# Altium footprint library PMP30284RevA_pcb.PcbLib: 17 footprints (part 1 of 2)
Each footprint in its own frame and in the unit in brackets; x right, y up, seen from the top. Pads: shape width x height; smd on the part's side, far side on the other; paste and mask are expansions set on the pad; w line width, h text height; cw(c..) or ccw(c..) is an arc to the next point about the centre after c.
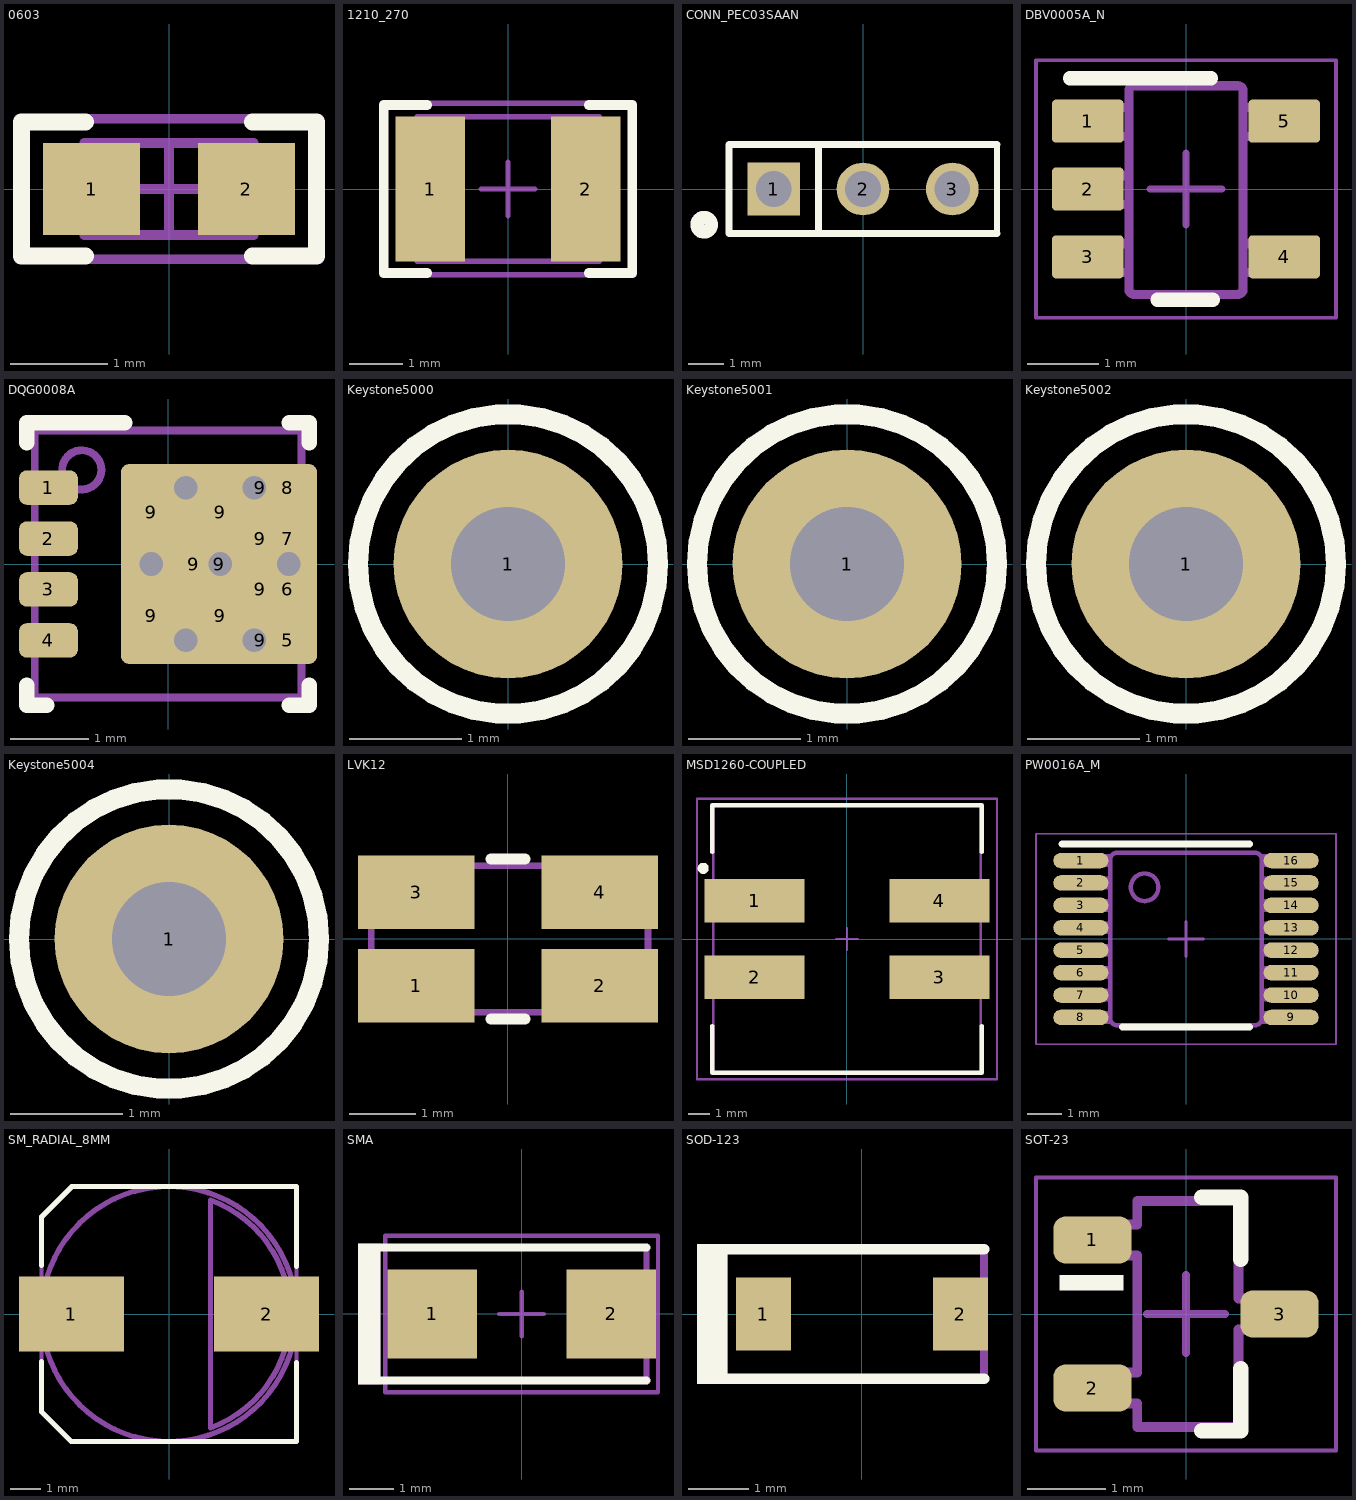
[diagram p0: the footprints below, top view; thin cyan lines are the x and y axes]

## 0603 [mm] "0603 from SM-752 data"
height 1
pads (2):
  rect 1x0.95 smd: 1(-0.8,0) 2(0.8,0)
Top Overlay:
  lines w0.178: -0.864,-0.691 -1.524,-0.691 -1.524,0.693 -0.864,0.693 ; 0.864,-0.691 1.524,-0.691 1.524,0.693 0.864,0.693
Mechanical 5:
  lines w0.1: -1.55,-0.725 1.55,-0.725 1.55,0.725 -1.55,0.725 -1.55,-0.725
  text ".Designator" at -1.397,-0.381 h0.76
Mechanical 13:
  lines w0.1: -0.55,-0.475 -0.55,0.475 ; 0.55,-0.475 0.55,0.475 ; -0.875,-0.475 -0.875,0.475 0.875,0.475 0.875,-0.475 -0.875,-0.475
Mechanical 15:
  lines w0.1: -0.475,0 0.475,0 ; 0,-0.475 0,0.475 ; -1.55,-0.725 -1.55,0.725 1.55,0.725 1.55,-0.725 -1.55,-0.725
3D body: height 1, standoff 0, extent 0.551,-0.474 0.874,0.474
3D body: height 1, standoff 0, extent -0.549,-0.474 0.549,0.474
3D body: height 1, standoff 0, extent -0.874,-0.474 -0.551,0.474

## 1210_270 [mm] "1210"
height 2.7
pads (2):
  rect 1.3x2.7 smd: 1(-1.45,0) 2(1.45,0)
Top Overlay:
  lines w0.178: -1.511,-1.568 -2.316,-1.568 -2.316,1.568 -1.511,1.568 ; 1.511,-1.568 2.316,-1.568 2.316,1.568 1.511,1.568
Mechanical 5:
  lines w0.1: -1.7,-1.35 -1.7,1.35 1.7,1.35 1.7,-1.35 -1.7,-1.35
  text ".Designator" at -1.4,-0.375 h0.76
Mechanical 13:
  lines w0.1: -1.2,-1.35 -1.2,1.35 ; 1.2,-1.35 1.2,1.35 ; -1.7,-1.35 1.7,-1.35 1.7,1.35 -1.7,1.35 -1.7,-1.35
Mechanical 15:
  lines w0.1: -0.5,0 0.5,0 ; 0,-0.5 0,0.5 ; -2.35,-1.6 2.35,-1.6 2.35,1.6 -2.35,1.6 -2.35,-1.6
3D body: height 2.7, standoff 0, extent 1.201,-1.349 1.699,1.349
3D body: height 2.7, standoff 0, extent -1.199,-1.349 1.199,1.349
3D body: height 2.7, standoff 0, extent -1.699,-1.349 -1.201,1.349

## CONN_PEC03SAAN [mm] "SULLINS"
height 8.38
pads (3):
  rect 1.5x1.5 hole 1.016: 1(-2.54,0)
  round 1.5 hole 1.016: 2(0,0) 3(2.54,0)
Top Overlay:
  circle w0.381: c-4.521,-1.016 r0.203
  lines w0.178: 3.81,-1.27 3.81,0.254 3.81,1.27
  lines w0.203: -1.27,1.27 -1.27,-1.27 ; 3.81,-1.27 -1.27,-1.27 ; 3.81,1.27 -3.81,1.27 -3.81,-1.27 -1.27,-1.27
Mechanical 5:
  rectangle: -3.048,-0.508 -2.032,0.508
  lines w0.127: -3.81,-1.27 3.81,-1.27 3.81,1.27 -3.81,1.27 -3.81,-1.27
  text ".Designator" at -0.508,0.381 h0.76
3D body: height 2.54, standoff 0, extent -3.835,-1.295 3.835,1.295
3D body: height 8.38, standoff -3.05, extent -2.844,-0.304 -2.236,0.304
3D body: height 8.38, standoff -3.05, extent -0.304,-0.304 0.304,0.304
3D body: height 8.38, standoff -3.05, extent 2.236,-0.304 2.844,0.304

## DBV0005A_N [mm] "SOT23, 5-Leads, Body 2.9x1.6mm, Pitch 0.95mm, Lead Span 2.8mm, IPC Medium Density"
height 1.45
pads (5):
  rrect17% 1x0.6 smd: 1(-1.375,0.95) 2(-1.375,0) 3(-1.375,-0.95) 4(1.375,-0.95) 5(1.375,0.95)
Top Overlay:
  lines w0.2: -1.625,1.55 0.35,1.55 ; -0.4,-1.55 0.375,-1.55
Mechanical 5:
  lines w0.127: -0.801,1.371 cw(c-0.725,1.37) -0.725,1.446 ; -0.801,1.37 -0.801,-1.399 -0.801,-1.4 ccw(c-0.725,-1.399) -0.725,-1.475 ; -0.801,1.37 -0.801,1.371 ; -0.725,-1.475 -0.725,-1.475 ; -0.725,-1.475 0.723,-1.475 0.724,-1.475 ccw(c0.723,-1.399) 0.799,-1.4 0.799,-1.399 0.799,1.37 ; -0.725,1.446 0.723,1.446 0.724,1.446 cw(c0.723,1.37) 0.799,1.371 ; -0.725,1.446 -0.725,1.446 ; 0.799,1.37 0.799,1.371 ; -1.423,-1.167 -1.199,-1.167 -1.105,-1.167 -1.088,-1.167 -0.835,-1.167 -0.801,-1.167 -0.801,-0.767 -0.835,-0.767 -1.088,-0.767 -1.105,-0.767 -1.199,-0.767 -1.423,-0.767 -1.423,-1.167 ; -1.423,-0.215 -1.199,-0.215 -1.105,-0.215 -1.088,-0.215 -0.835,-0.215 -0.801,-0.215 -0.801,0.186 -0.835,0.186 -1.088,0.186 -1.105,0.186 -1.199,0.186 -1.423,0.186 -1.423,-0.215 ; -1.423,0.738 -1.199,0.738 -1.105,0.738 -1.088,0.738 -0.835,0.738 -0.801,0.738 -0.801,1.138 -0.835,1.138 -1.088,1.138 -1.105,1.138 -1.199,1.138 -1.423,1.138 -1.423,0.738 ; 0.799,-1.167 0.799,-0.767 0.834,-0.767 1.087,-0.767 1.103,-0.767 1.198,-0.767 1.422,-0.767 1.422,-1.167 1.198,-1.167 1.103,-1.167 1.087,-1.167 0.834,-1.167 0.799,-1.167 ; 0.799,0.738 0.799,1.138 0.834,1.138 1.087,1.138 1.103,1.138 1.198,1.138 1.422,1.138 1.422,0.738 1.198,0.738 1.103,0.738 1.087,0.738 0.834,0.738 0.799,0.738
  text ".Designator" at -0.25,0.95 h0.51
Mechanical 15:
  lines w0.05: -2.1,-1.8 2.1,-1.8 2.1,1.8 -2.1,1.8 -2.1,-1.8
  lines w0.1: -0.5,0 0.5,0 ; 0,-0.5 0,0.5
3D body "DBV0005A.stp": height 1.09, standoff 0, extent -1.422,-1.46 1.422,1.461

## DQG0008A [mm] "SMD, 8-Leads, Body 3.3x3.3mm, Pitch 0.65mm"
height 1.1
pads (18):
  rrect45% 0.75x0.44 smd paste-0.05 mask-0.05: 1(-1.525,0.975) 2(-1.525,0.325) 3(-1.525,-0.325) 4(-1.525,-0.975) 5(1.525,-0.975) 6(1.525,-0.325) 7(1.525,0.325) 8(1.525,0.975)
  rrect50% 0.676x1.125 on Top Paste: 9(-0.212,-0.663) 9(-0.212,0.662) 9(0.664,-0.663) 9(0.664,0.662)
  rrect50% 1.775x2.45 on Top Solder: 9(0.327,0)
  rrect8% 2.5x2.55 smd paste-1.5 mask-1.5: 9(0.65,0)
  rrect50% 0.5x0.34 on Top Solder: 9(1.175,-0.975) 9(1.175,-0.325) 9(1.175,0.325) 9(1.175,0.975)
via 0.226,0.975 diameter 0.6 hole 0.3
via 1.102,0.975 diameter 0.6 hole 0.3
via 1.102,-0.975 diameter 0.6 hole 0.3
via 0.226,-0.975 diameter 0.6 hole 0.3
via 0.664,0 diameter 0.6 hole 0.3
via -0.212,0 diameter 0.6 hole 0.3
via 1.54,0 diameter 0.6 hole 0.3
Top Overlay:
  lines w0.2: -1.8,-1.55 -1.8,-1.8 -1.55,-1.8 ; -1.8,1.55 -1.8,1.8 -0.55,1.8 ; 1.55,-1.8 1.8,-1.8 1.8,-1.55 ; 1.55,1.8 1.8,1.8 1.8,1.55
Mechanical 5:
  circle w0.1: c-1.1,1.2 r0.25
  lines w0.1: -1.7,-1.7 1.7,-1.7 1.7,1.7 -1.7,1.7 -1.7,-1.7
  text ".Designator" at -1.524,-0.508 h0.76
3D body "DQG0008A.stp": height 1.1, standoff 0, extent -1.65,-1.65 1.65,1.65

## Keystone5000 [mil] "For Keystone 500x miniature loop terminals"
height 181.1
pads (1):
  round 80 hole 40: 1(0,0)
Top Overlay:
  circle w7: c0,0 r52.5
Mechanical 5:
  circle w3.94: c0,0 r52.5
  text ".Designator" at -92.97,-15 h18
3D body "Keystone_5000.stp": height 181.97, standoff -118.11, extent -49,-49 49.04,49.24

## Keystone5001 [mil] "For Keystone 500x miniature loop terminals"
height 181.1
pads (1):
  round 80 hole 40: 1(0,0)
Top Overlay:
  circle w7: c0,0 r52.5
Mechanical 5:
  circle w3.94: c0,0 r52.5
  text ".Designator" at -92.97,-15 h18
3D body "Keystone_5001.stp": height 181.97, standoff -118.11, extent -49,-49 49.04,49.24

## Keystone5002 [mil] "For Keystone 500x miniature loop terminals"
height 181.1
pads (1):
  round 80 hole 40: 1(0,0)
Top Overlay:
  circle w7: c0,0 r52.5
Mechanical 5:
  circle w3.94: c0,0 r52.5
  text ".Designator" at -92.97,-15 h18
3D body "Keystone_5002.stp": height 181.97, standoff -118.11, extent -49,-49 49.04,49.23

## Keystone5004 [mil] "For Keystone 500x miniature loop terminals"
height 181.1
pads (1):
  round 80 hole 40: 1(0,0)
Top Overlay:
  circle w7: c0,0 r52.5
Mechanical 5:
  circle w3.94: c0,0 r52.5
  text ".Designator" at -92.97,-15 h18
3D body "Keystone_5004.stp": height 181.97, standoff -118.11, extent -49,-49 49.04,49.24

## LVK12 [mm] "Ohmite"
height 0.65
pads (4):
  rect 1.75x1.1 smd: 1(-1.375,-0.7) 2(1.375,-0.7) 3(-1.375,0.7) 4(1.375,0.7)
Top Overlay:
  lines w0.17: -0.25,-1.2 0.25,-1.2 ; -0.25,1.2 0.25,1.2
Mechanical 5:
  lines w0.1: -2.05,-1.1 2.1,-1.1 2.1,1.1 -2.05,1.1 -2.05,-1.1
  text ".Designator" at 0.635,0.508 h1.02
3D body: height 0.65, standoff 0, extent -0.999,-0.899 0.999,0.899
3D body: height 0.65, standoff 0, extent -1.699,0.251 -1.001,0.899
3D body: height 0.65, standoff 0, extent -1.699,-0.249 -1.001,0.249
3D body: height 0.65, standoff 0, extent -1.699,-0.899 -1.001,-0.251
3D body: height 0.65, standoff 0, extent 1.001,0.251 1.699,0.899
3D body: height 0.65, standoff 0, extent 1.001,-0.249 1.699,0.249
3D body: height 0.65, standoff 0, extent 1.001,-0.899 1.699,-0.251

## MSD1260-COUPLED [mm]
height 6
pads (4):
  rect 4.6x2.007 smd mask+0.051: 1(-4.25,1.753) 2(-4.25,-1.753) 3(4.25,-1.753) 4(4.25,1.753)
Top Overlay:
  circle w0.254: c-6.615,3.253 r0.128
  lines w0.2: -6.2,-4 -6.2,-6.15 6.2,-6.15 6.2,-4 ; -6.2,4 -6.2,6.15 6.2,6.15 6.2,4
Mechanical 5:
  lines w0.1: -6.15,-6.15 -6.15,6.15 6.15,6.15 6.15,-6.15 -6.15,-6.15
  text ".Designator" at -1.775,-0.525 h1.02
Mechanical 15:
  lines w0.1: -0.5,0 0.5,0 ; 0,-0.5 0,0.5 ; -6.9,-6.45 -6.9,6.45 6.9,6.45 6.9,-6.45 -6.9,-6.45
3D body: height 6.2, standoff 0, extent -6.15,-6.15 6.15,6.15

## PW0016A_M [mm] "TSOP, 16-Leads, Body 5x4.4mm, Pitch 0.65mm, IPC Low Density"
height 1.2
pads (16):
  oval 1.6x0.45 smd: 1(-3.05,2.275) 2(-3.05,1.625) 3(-3.05,0.975) 4(-3.05,0.325) 5(-3.05,-0.325) 6(-3.05,-0.975) 7(-3.05,-1.625) 8(-3.05,-2.275) 9(3.05,-2.275) 10(3.05,-1.625) 11(3.05,-0.975) 12(3.05,-0.325) 13(3.05,0.325) 14(3.05,0.975) 15(3.05,1.625) 16(3.05,2.275)
Top Overlay:
  lines w0.2: -3.6,2.75 1.85,2.75 ; -1.85,-2.55 1.85,-2.55
Mechanical 5:
  drawing of 202 lines, arcs and shapes, not listed
  text ".Designator" at 0.627,0.381 h1.02
Mechanical 15:
  lines w0.05: -4.35,-3.05 4.35,-3.05 4.35,3.05 -4.35,3.05 -4.35,-3.05
  lines w0.1: -0.5,0 0.5,0 ; 0,-0.5 0,0.5
3D body "PW0016A.stp": height 1, standoff 0, extent -3.21,-2.5 3.21,2.5

## SM_RADIAL_8MM [mm] "Nichicon 8x10"
height 10.5
pads (2):
  rect 3.5x2.5 smd: 1(-3.25,0) 2(3.25,0)
Top Overlay:
  lines w0.178: -4.25,-1.597 -4.25,-3.258 -3.258,-4.25 4.25,-4.25 4.25,-1.624 ; -4.25,1.624 -4.25,3.238 -3.238,4.25 4.25,4.25 4.25,1.597
Mechanical 5:
  lines w0.127: -4.25,-3.258 -4.25,3.238 -3.238,4.25 4.25,4.25 4.25,-4.25 -3.258,-4.25 -4.25,-3.258
  text ".Designator" at -1.524,-0.508 h1.02
Mechanical 13:
  circle w0.178: c0,0 r4.25
  lines w0.178: 1.382,-3.797 ccw(c0,0) 1.382,3.797 1.382,-3.797
3D body: height 10.5, standoff 10.4, extent 1.381,-3.797 4.041,3.798
3D body: height 10.5, standoff 1, extent -4.249,-4.249 4.249,4.249
3D body: height 1, standoff 0, extent -4.251,-4.251 4.251,4.251

## SMA [mm] "Molded Diode, 2-Leads, Body 4.3x2.6mm, IPC Medium Density, based on OnSemi component dimensions and land pattern"
height 2.27
pads (2):
  rect 2x2 smd: 1(-2,0) 2(2,0)
Top Overlay:
  rectangle: -3.658,-1.575 -3.15,1.575
  lines w0.178: -3.327,-1.486 2.794,-1.486 ; -3.327,1.486 2.794,1.486
Mechanical 5:
  rectangle: -3.658,-1.575 -3.15,1.575
  lines w0.127: -3.327,-1.486 2.794,-1.486 2.794,1.486 -3.327,1.486
  text ".Designator" at 0.254,0.635 h1.02
Mechanical 15:
  lines w0.1: -0.5,0 0.5,0 ; 0,-0.5 0,0.5 ; -3.05,-1.75 3.05,-1.75 3.05,1.75 -3.05,1.75 -3.05,-1.75
3D body "SMA_nominal.stp": height 2.42, standoff 0.02, extent -2.6,-1.3 2.6,1.3

## SOD-123 [mm] "On Semi recommended land pattern"
height 1.35
pads (2):
  rect 0.915x1.22 smd: 1(-1.637,0) 2(1.637,0)
Top Overlay:
  rectangle: -2.743,-1.168 -2.235,1.168
  lines w0.178: -2.413,-1.079 2.032,-1.079 ; -2.413,1.079 2.032,1.079
Mechanical 5:
  rectangle: -2.743,-1.168 -2.235,1.168
  lines w0.127: -2.413,-1.079 2.032,-1.079 2.032,1.079 -2.413,1.079
  text ".Designator" at -1.956,-0.33 h0.76
3D body "SOD-123.stp": height 1.35, standoff 0, extent -1.932,-0.9 1.932,0.9

## SOT-23 [mm] "SOT23, 3-Leads, Body 2.9x1.3mm, Pitch 0.95mm, Lead Span 2.5mm, IPC Medium Density"
height 1.1
pads (3):
  rrect50% 1x0.6 smd: 1(-1.2,0.95) 2(-1.2,-0.95) 3(1.2,0)
Top Overlay:
  rectangle: -1.625,0.3 -0.8,0.5
  lines w0.2: 0.2,-1.5 0.7,-1.5 0.7,-0.7 ; 0.2,1.5 0.7,1.5 0.7,0.7
Mechanical 5:
  lines w0.127: -1.16,-1.15 -1.16,-0.75 -0.625,-0.75 -0.625,0.75 -1.16,0.75 -1.16,1.15 -0.625,1.15 -0.625,1.45 0.675,1.45 0.675,0.2 1.21,0.2 1.21,-0.2 0.675,-0.2 0.675,-1.45 -0.625,-1.45 -0.625,-1.15 -1.16,-1.15
  text ".Designator" at -0.175,1.225 h0.64
Mechanical 15:
  lines w0.05: -1.925,-1.75 1.925,-1.75 1.925,1.75 -1.925,1.75 -1.925,-1.75
  lines w0.1: -0.5,0 0.5,0 ; 0,-0.5 0,0.5
3D body "SW3dPS-sot-3p290x130ll237h100.STEP": height 1, standoff 0, extent -1.16,-1.45 1.21,1.45